# Altium footprint library prosthesis.PcbLib: 35 footprints (part 1 of 3)
Each footprint in its own frame and in the unit in brackets; x right, y up, seen from the top. Pads: shape width x height; smd on the part's side, far side on the other; paste and mask are expansions set on the pad; w line width, h text height; cw(c..) or ccw(c..) is an arc to the next point about the centre after c.
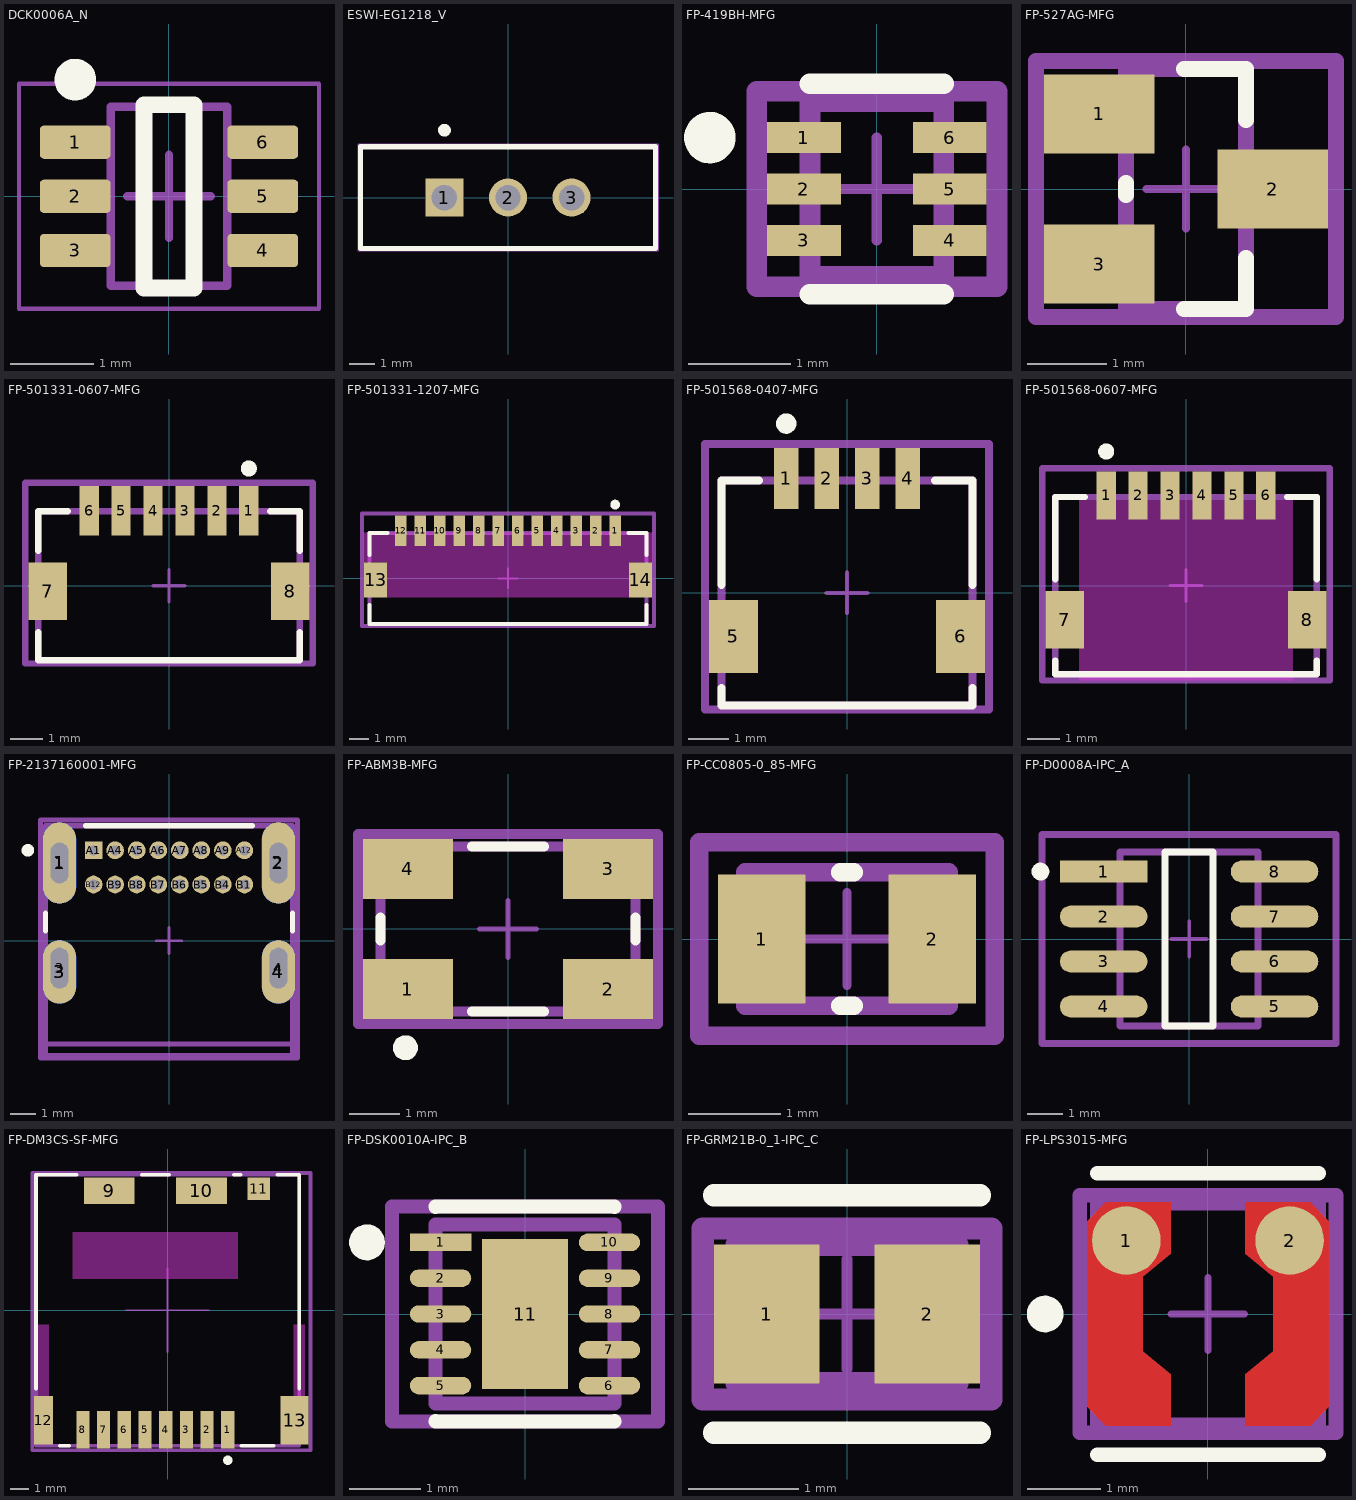
[diagram p0: the footprints below, top view; thin cyan lines are the x and y axes]

## DCK0006A_N [mm]
pads (6):
  rrect25% 0.85x0.4 smd: 1(-1.125,0.65) 2(-1.125,0) 3(-1.125,-0.65) 4(1.125,-0.65) 5(1.125,0) 6(1.125,0.65)
Top Overlay:
  circle w0.25: c-1.125,1.4 r0.125
  lines w0.2: -0.3,-1.1 0.3,-1.1 0.3,1.1 -0.3,1.1 -0.3,-1.1
Mechanical 1:
  text ".Designator" at -0.635,-0.127 h0.3
Top Assembly:
  lines w0.1: -0.7,-1.075 -0.7,1.075 0.7,1.075 0.7,-1.075 -0.7,-1.075
Top Courtyard:
  lines w0.05: -1.8,-1.35 -1.8,1.35 1.8,1.35 1.8,-1.35 -1.8,-1.35
  lines w0.1: -0.5,0 0.5,0 ; 0,-0.5 0,0.5
3D body "DCK0006AakaMAA06.stp": height 0.94, standoff -0.01, extent -1.14,-1 1.14,1

## ESWI-EG1218_V [mm]
pads (3):
  rect 1.5x1.5 hole 1: 1(-2.5,0)
  round 1.5 hole 1: 2(0,0) 3(2.5,0)
Top Overlay:
  circle w0.25: c-2.5,2.65 r0.125
  lines w0.2: -5.8,-2 -5.8,2 5.8,2 5.8,-2 -5.8,-2
Top Assembly:
  lines w0.1: -5.8,-2 -5.8,2 5.8,2 5.8,-2 -5.8,-2
Top Courtyard:
  lines w0.05: -5.9,-2.1 -5.9,2.1 5.9,2.1 5.9,-2.1 -5.9,-2.1
  lines w0.1: -0.5,0 0.5,0 ; 0,-0.5 0,0.5
3D body: height 7.4, standoff 0, extent -5.8,-2 5.8,2

## FP-419BH-MFG [mm]
pads (6):
  rect 0.72x0.3 smd paste+0 mask+0: 1(-0.71,0.5) 2(-0.71,0) 3(-0.71,-0.5) 4(0.71,-0.5) 5(0.71,0) 6(0.71,0.5)
Top Overlay:
  circle w0.25: c-1.625,0.5 r0.125
  lines w0.2: -0.65,-1.025 0.65,-1.025 ; -0.65,1.025 0.65,1.025
Top 3D Body:
  lines w0.2: -0.65,-0.85 -0.65,0.85 0.65,0.85 0.65,-0.85 -0.65,-0.85
Top Component Center:
  lines w0.1: -0.5,0 0.5,0 ; 0,-0.5 0,0.5
Top Assembly:
  lines w0.2: -1.17,-0.95 -1.17,0.95 1.17,0.95 1.17,-0.95 -1.17,-0.95
  text ".Designator" at 0,0.188 h1
Top Courtyard:
  lines w0.2: -1.17,-0.95 -1.17,0.95 1.17,0.95 1.17,-0.95 -1.17,-0.95
3D body "Trans_onsemi_2N7002VA_eec.STEP": height 0.25, standoff 0, extent -1.17,-0.95 1.17,0.95

## FP-527AG-MFG [mm]
pads (3):
  rect 1.4x1 smd paste+0 mask+0: 1(-1.1,0.95) 2(1.1,0) 3(-1.1,-0.95)
Top Overlay:
  lines w0.2: -0.76,-0.075 -0.76,0.075 ; -0.025,-1.52 0.76,-1.52 0.76,-0.875 ; -0.025,1.52 0.76,1.52 0.76,0.875
Top 3D Body:
  lines w0.2: -0.76,-1.52 -0.76,1.52 0.76,1.52 0.76,-1.52 -0.76,-1.52
Top Component Center:
  lines w0.1: -0.5,0 0.5,0 ; 0,-0.5 0,0.5
Top Assembly:
  lines w0.2: -1.9,-1.62 -1.9,1.62 1.9,1.62 1.9,-1.62 -1.9,-1.62
  text ".Designator" at 0,-0.001 h1
Top Courtyard:
  lines w0.2: -1.9,-1.62 -1.9,1.62 1.9,1.62 1.9,-1.62 -1.9,-1.62
3D body "Trans_ON_Semi_FDN337N_eec.STEP": height 0.25, standoff 0, extent -1.9,-1.62 1.9,1.62

## FP-501331-0607-MFG [mm]
pads (8):
  rect 0.6x1.55 smd paste+0 mask+0: 1(2.5,2.35) 2(1.5,2.35) 3(0.5,2.35) 4(-0.5,2.35) 5(-1.5,2.35) 6(-2.5,2.35)
  rect 1.2x1.8 smd paste+0 mask+0: 7(-3.8,-0.175) 8(3.8,-0.175)
Top Overlay:
  circle w0.25: c2.5,3.675 r0.125
  lines w0.2: -4.1,-1.45 -4.1,-2.335 4.1,-2.335 4.1,-1.45 ; -4.1,1.1 -4.1,2.335 -3.175,2.335 ; 3.175,2.335 4.1,2.335 4.1,1.1
Top 3D Body:
  lines w0.2: -4.1,-2.335 -4.1,2.335 4.1,2.335 4.1,-2.335 -4.1,-2.335
Top Component Center:
  lines w0.1: -0.5,0 0.5,0 ; 0,-0.5 0,0.5
Top Assembly:
  lines w0.2: -4.5,-2.435 -4.5,3.225 4.5,3.225 4.5,-2.435 -4.5,-2.435
  text ".Designator" at 0,0.394 h1
Top Courtyard:
  lines w0.2: -4.5,-2.435 -4.5,3.225 4.5,3.225 4.5,-2.435 -4.5,-2.435
3D body "Conn_Molex_501331-0607_eec.STEP": height 0.25, standoff 0, extent -4.5,-2.435 4.5,3.225

## FP-501331-1207-MFG [mm]
pads (14):
  rect 0.6x1.55 smd paste+0 mask+0: 1(5.5,2.45) 2(4.5,2.45) 3(3.5,2.45) 4(2.5,2.45) 5(1.5,2.45) 6(0.5,2.45) 7(-0.5,2.45) 8(-1.5,2.45) 9(-2.5,2.45) 10(-3.5,2.45) 11(-4.5,2.45) 12(-5.5,2.45)
  rect 1.2x1.8 smd paste+0 mask+0: 13(-6.8,-0.075) 14(6.8,-0.075)
Top Overlay:
  circle w0.25: c5.5,3.79 r0.125
  lines w0.2: -7.1,-1.35 -7.1,-2.335 7.1,-2.335 7.1,-1.35 ; -7.1,1.2 -7.1,2.335 -6.175,2.335 ; 6.175,2.335 7.1,2.335 7.1,1.2
Keep-Out Layer:
  region: -7.4,0.825 -7.4,2.355 -5.8,2.355 -5.8,1.675 -5.2,1.675 -5.2,2.355 -4.8,2.355 -4.8,1.675 -4.2,1.675 -4.2,2.355 -3.8,2.355 -3.8,1.675 -3.2,1.675 -3.2,2.355 -2.8,2.355 -2.8,1.675 -2.2,1.675 -2.2,2.355 -1.8,2.355 -1.8,1.675 -1.2,1.675 -1.2,2.355 -0.8,2.355 -0.8,1.675 -0.2,1.675 -0.2,2.355 0.2,2.355 0.2,1.675 0.8,1.675 0.8,2.355 1.2,2.355 1.2,1.675 1.8,1.675 1.8,2.355 2.2,2.355 2.2,1.675 2.8,1.675 2.8,2.355 3.2,2.355 3.2,1.675 3.8,1.675 3.8,2.355 4.2,2.355 4.2,1.675 4.8,1.675 4.8,2.355 5.2,2.355 5.2,1.675 5.8,1.675 5.8,2.355 7.4,2.355 7.4,0.825 6.2,0.825 6.2,-0.975 -6.2,-0.975 -6.2,0.825
Top 3D Body:
  lines w0.2: -7.1,-2.335 -7.1,2.335 7.1,2.335 7.1,-2.335 -7.1,-2.335
Top Component Center:
  lines w0.1: -0.5,0 0.5,0 ; 0,-0.5 0,0.5
Top Assembly:
  lines w0.2: -7.5,-2.435 -7.5,3.325 7.5,3.325 7.5,-2.435 -7.5,-2.435
  text ".Designator" at 0,0.633 h1
Top Courtyard:
  lines w0.2: -7.5,-2.435 -7.5,3.325 7.5,3.325 7.5,-2.435 -7.5,-2.435
3D body "Conn_Molex_501331-1207_eec.STEP": height 0.25, standoff 0, extent -7.5,-2.435 7.5,3.325

## FP-501568-0407-MFG [mm]
pads (6):
  rect 0.6x1.5 smd paste+0 mask+0: 1(-1.5,2.825) 2(-0.5,2.825) 3(0.5,2.825) 4(1.5,2.825)
  rect 1.2x1.8 smd paste+0 mask+0: 5(-2.8,-1.075) 6(2.8,-1.075)
Top Overlay:
  circle w0.25: c-1.5,4.175 r0.125
  lines w0.2: -3.1,-2.35 -3.1,-2.775 3.1,-2.775 3.1,-2.35 ; -3.1,0.2 -3.1,2.775 -2.175,2.775 ; 2.175,2.775 3.1,2.775 3.1,0.2
Top 3D Body:
  lines w0.2: -3.1,-2.775 -3.1,2.775 3.1,2.775 3.1,-2.775 -3.1,-2.775
Top Component Center:
  lines w0.1: -0.5,0 0.5,0 ; 0,-0.5 0,0.5
Top Assembly:
  lines w0.2: -3.5,-2.875 -3.5,3.675 3.5,3.675 3.5,-2.875 -3.5,-2.875
  text ".Designator" at 0,0.399 h1
Top Courtyard:
  lines w0.2: -3.5,-2.875 -3.5,3.675 3.5,3.675 3.5,-2.875 -3.5,-2.875
3D body "Conn_Molex_501568-0407_eec.STEP": height 0.25, standoff 0, extent -3.5,-2.875 3.5,3.675

## FP-501568-0607-MFG [mm]
pads (8):
  rect 0.6x1.5 smd paste-1000 mask+0: 1(-2.5,2.825) 2(-1.5,2.825) 3(-0.5,2.825) 4(0.5,2.825) 5(1.5,2.825) 6(2.5,2.825)
  rect 1.2x1.8 smd paste-1000 mask+0: 7(-3.8,-1.075) 8(3.8,-1.075)
Top Overlay:
  circle w0.25: c-2.5,4.2 r0.125
  lines w0.2: -4.1,-2.35 -4.1,-2.775 4.1,-2.775 4.1,-2.35 ; -4.1,0.2 -4.1,2.775 -3.175,2.775 ; 3.175,2.775 4.1,2.775 4.1,0.2
Top Paste:
  rectangle: 3.35,-1.975 4.4,-0.175
  rectangle: -4.4,-1.975 -3.35,-0.175
  rectangle: 2.2,2.675 2.8,3.575
  rectangle: 1.2,2.675 1.8,3.575
  rectangle: 0.2,2.675 0.8,3.575
  rectangle: -0.8,2.675 -0.2,3.575
  rectangle: -1.8,2.675 -1.2,3.575
  rectangle: -2.8,2.675 -2.2,3.575
Keep-Out Layer:
  rectangle: -3.35,-2.975 3.35,2.675
Top 3D Body:
  lines w0.2: -4.1,-2.775 -4.1,2.775 4.1,2.775 4.1,-2.775 -4.1,-2.775
Top Component Center:
  lines w0.1: -0.5,0 0.5,0 ; 0,-0.5 0,0.5
Top Assembly:
  lines w0.2: -4.5,-2.975 -4.5,3.675 4.5,3.675 4.5,-2.975 -4.5,-2.975
  text ".Designator" at 0,0.538 h1
Top Courtyard:
  lines w0.2: -4.5,-2.975 -4.5,3.675 4.5,3.675 4.5,-2.975 -4.5,-2.975

## FP-2137160001-MFG [mm]
pads (28):
  rrect100% 0.7x1.6 hole 1.6 slot 0.7 at 0 deg paste-2539.97 mask+0: 1(-4.32,3.065) 2(4.32,3.065) 3(-4.32,-1.085) 4(4.32,-1.085)
  rrect100% 1.3x3.2 smd paste-1000 mask+0: 1(-4.32,3.065) 2(4.32,3.065)
  rrect100% 1.3x3.2 smd far side paste-1000 mask+0: 1(-4.32,3.065) 2(4.32,3.065)
  rrect100% 1.3x2.5 smd paste-1000 mask+0: 3(-4.32,-1.235) 4(4.32,-1.235)
  rrect100% 1.3x2.5 smd far side paste-1000 mask+0: 3(-4.32,-1.235) 4(4.32,-1.235)
  rect 0.7x0.7 hole 0.4 paste-2539.97 mask+0: A1(-2.975,3.565)
  round 0.7 hole 0.4 paste-2539.97 mask+0: A4(-2.125,3.565) A5(-1.275,3.565) A6(-0.425,3.565) A7(0.425,3.565) A8(1.275,3.565) A9(2.125,3.565) A12(2.975,3.565) B1(2.975,2.215) B4(2.125,2.215) B5(1.275,2.215) B6(0.425,2.215) B7(-0.425,2.215) B8(-1.275,2.215) B9(-2.125,2.215) B12(-2.975,2.215)
Top Overlay:
  circle w0.25: c-5.57,3.565 r0.125
  lines w0.2: -4.87,0.39 -4.87,1.09 ; -3.295,4.535 3.295,4.535 ; 4.87,0.39 4.87,1.09
Top 3D Body:
  lines w0.2: -5.07,-4.085 5.07,-4.085 ; -4.87,-4.535 -4.87,4.535 4.87,4.535 4.87,-4.535 -4.87,-4.535
Top Component Center:
  lines w0.1: -0.5,0 0.5,0 ; 0,-0.5 0,0.5
Top Assembly:
  lines w0.2: -5.07,-4.635 -5.07,4.765 5.07,4.765 5.07,-4.635 -5.07,-4.635
  text ".Designator" at 0,0.064 h1
Top Courtyard:
  lines w0.2: -5.07,-4.635 -5.07,4.765 5.07,4.765 5.07,-4.635 -5.07,-4.635
3D body "Conn_Molex_2137160001_eec.STEP": height 0.25, standoff 0, extent -5.07,-4.635 5.07,4.765

## FP-ABM3B-MFG [mm]
pads (4):
  rect 1.8x1.2 smd paste+0 mask+0: 1(-2,-1.2) 2(2,-1.2) 3(2,1.2) 4(-2,1.2)
Top Overlay:
  circle w0.25: c-2.05,-2.375 r0.125
  lines w0.2: -2.55,-0.225 -2.55,0.225 ; -0.725,-1.65 0.725,-1.65 ; -0.725,1.65 0.725,1.65 ; 2.55,-0.225 2.55,0.225
Top 3D Body:
  lines w0.2: -2.55,-1.65 2.55,-1.65 2.55,1.65 -2.55,1.65 -2.55,-1.65
Top Component Center:
  lines w0.1: -0.57,0 0.57,0 ; 0,-0.57 0,0.57
Top Assembly:
  lines w0.2: -3,-1.9 3,-1.9 3,1.9 -3,1.9 -3,-1.9
  text ".Designator" at 0,0.188 h1
Top Courtyard:
  lines w0.2: -3,-1.9 3,-1.9 3,1.9 -3,1.9 -3,-1.9
3D body "Crys_Abracon_ABM3B-12_000MHZ-10-B-1-U-T_eec.STEP": height 0.25, standoff 0, extent -3,-1.9 3,1.9

## FP-CC0805-0_85-MFG [mm]
pads (2):
  rect 0.95x1.4 smd paste+0 mask+0: 1(-0.925,0) 2(0.925,0)
Top Overlay:
  lines w0.2: -0.075,-0.725 0.075,-0.725 ; -0.075,0.725 0.075,0.725
Top 3D Body:
  lines w0.2: -1.1,-0.725 -1.1,0.725 1.1,0.725 1.1,-0.725 -1.1,-0.725
Top Component Center:
  lines w0.1: -0.5,0 0.5,0 ; 0,-0.5 0,0.5
Top Assembly:
  lines w0.2: -1.6,-1.05 -1.6,1.05 1.6,1.05 1.6,-1.05 -1.6,-1.05
  text ".Designator" at 0,0.188 h1
Top Courtyard:
  lines w0.2: -1.6,-1.05 -1.6,1.05 1.6,1.05 1.6,-1.05 -1.6,-1.05
3D body "Cap_Yageo_CC0805KKX7R7BB105_eec.STEP": height 0.25, standoff 0, extent -1.6,-1.05 1.6,1.05

## FP-D0008A-IPC_A [mm]
pads (8):
  rect 2.469x0.622 smd paste+0 mask+0: 1(-2.414,1.905)
  rrect100% 2.469x0.622 smd paste+0 mask+0: 2(-2.414,0.635) 3(-2.414,-0.635) 4(-2.414,-1.905) 5(2.414,-1.905) 6(2.414,-0.635) 7(2.414,0.635) 8(2.414,1.905)
Top Overlay:
  circle w0.25: c-4.198,1.905 r0.125
  lines w0.2: -0.679,-2.452 0.679,-2.452 0.679,2.452 -0.679,2.452 -0.679,-2.452
Top 3D Body:
  lines w0.2: -1.947,-2.452 1.947,-2.452 1.947,2.452 -1.947,2.452 -1.947,-2.452
Top Component Center:
  lines w0.1: -0.5,0 0.5,0 ; 0,-0.5 0,0.5
Top Assembly:
  lines w0.2: -4.148,-2.953 4.148,-2.953 4.148,2.953 -4.148,2.953 -4.148,-2.953
  text ".Designator" at 0,0.188 h1
Top Courtyard:
  lines w0.2: -4.148,-2.953 4.148,-2.953 4.148,2.953 -4.148,2.953 -4.148,-2.953
3D body "IC_Texas_Instruments_ISO7220ADR_eec.STEP": height 0.25, standoff 0, extent -4.148,-2.953 4.148,2.953

## FP-DM3CS-SF-MFG [mm]
pads (13):
  rect 0.7x2 smd paste+0 mask+0: 1(3.2,-6.35) 2(2.1,-6.35) 3(1,-6.35) 4(-0.1,-6.35) 5(-1.2,-6.35) 6(-2.3,-6.35) 7(-3.4,-6.35) 8(-4.5,-6.35)
  rect 2.7x1.4 smd paste+0 mask+0: 9(-3.1,6.35) 10(1.8,6.35)
  rect 1.2x1.2 smd paste+0 mask+0: 11(4.85,6.45)
  rect 1x2.6 smd paste+0 mask+0: 12(-6.6,-5.85)
  rect 1.5x2.6 smd paste+0 mask+0: 13(6.75,-5.85)
Top Overlay:
  circle w0.25: c3.2,-7.975 r0.125
  lines w0.2: -7,-4.175 -7,7.2 -4.825,7.2 ; -5.725,-7.2 -5.225,-7.2 ; -1.375,7.2 0.075,7.2 ; 3.525,7.2 3.875,7.2 ; 3.925,-7.2 5.625,-7.2 ; 5.825,7.2 7,7.2 7,-4.175
Keep-Out Layer:
  rectangle: -5.05,1.65 3.75,4.15
  rectangle: 6.7,-4.55 7.3,-0.75
  rectangle: -6.9,-4.55 -6.3,-0.75
Top 3D Body:
  lines w0.2: -7,-7.2 7,-7.2 7,7.2 -7,7.2 -7,-7.2
Top Component Center:
  lines w0.1: -2.213,0 2.213,0 ; 0,-2.213 0,2.213
Top Assembly:
  lines w0.2: -7.2,-7.45 7.6,-7.45 7.6,7.3 -7.2,7.3 -7.2,-7.45
  text ".Designator" at 0.2,0.113 h1
Top Courtyard:
  lines w0.2: -7.2,-7.45 7.6,-7.45 7.6,7.3 -7.2,7.3 -7.2,-7.45
3D body "Conn_HIROSE_DM3CS-SF_eec.STEP": height 0.25, standoff 0, extent -7.2,-7.45 7.6,7.3

## FP-DSK0010A-IPC_B [mm]
pads (11):
  rect 0.856x0.242 smd paste+0 mask+0: 1(-1.178,1)
  rrect100% 0.856x0.242 smd paste+0 mask+0: 2(-1.178,0.5) 3(-1.178,0) 4(-1.178,-0.5) 5(-1.178,-1) 6(1.178,-1) 7(1.178,-0.5) 8(1.178,0) 9(1.178,0.5) 10(1.178,1)
  rect 1.2x2.1 smd paste-1000 mask+0: 11(0,0)
Top Overlay:
  circle w0.25: c-2.206,1 r0.125
  lines w0.2: -1.25,-1.496 -1.25,-1.5 1.25,-1.5 1.25,-1.496 ; -1.25,1.496 -1.25,1.5 1.25,1.5 1.25,1.496
Top Paste:
  rectangle: -0.329,-0.729 0.329,0.729
Top 3D Body:
  lines w0.2: -1.25,-1.25 -1.25,1.25 1.25,1.25 1.25,-1.25 -1.25,-1.25
Top Component Center:
  lines w0.1: -0.5,0 0.5,0 ; 0,-0.5 0,0.5
Top Assembly:
  lines w0.2: -1.856,-1.5 -1.856,1.5 1.856,1.5 1.856,-1.5 -1.856,-1.5
  text ".Designator" at 0,-0.001 h1
Top Courtyard:
  lines w0.2: -1.856,-1.5 -1.856,1.5 1.856,1.5 1.856,-1.5 -1.856,-1.5
3D body "IC_Texas_Instruments_INA223AIDSKT_eec.STEP": height 0.25, standoff 0, extent -1.856,-1.5 1.856,1.5

## FP-GRM21B-0_1-IPC_C [mm]
pads (2):
  rect 0.958x1.262 smd paste+0 mask+0: 1(-0.727,0) 2(0.727,0)
Top Overlay:
  lines w0.2: -1.206,-1.075 1.206,-1.075 ; -1.206,1.075 1.206,1.075
Top 3D Body:
  lines w0.2: -1,-0.625 -1,0.625 1,0.625 1,-0.625 -1,-0.625
Top Component Center:
  lines w0.1: -0.5,0 0.5,0 ; 0,-0.5 0,0.5
Top Assembly:
  lines w0.2: -1.306,-0.775 -1.306,0.775 1.306,0.775 1.306,-0.775 -1.306,-0.775
  text ".Designator" at 0,0.188 h1
Top Courtyard:
  lines w0.2: -1.306,-0.775 -1.306,0.775 1.306,0.775 1.306,-0.775 -1.306,-0.775
3D body "Cap_Murata_GRM21BR61C106KE15K_eec.STEP": height 0.25, standoff 0, extent -1.306,-0.775 1.306,0.775

## FP-LPS3015-MFG [mm]
pads (2):
  round 0.937 smd paste+0 mask+0: 1(-1.116,1.004) 2(1.116,1.004)
Top Layer:
  region: 1.65,0 1.65,1.27 1.395,1.525 0.51,1.525 0.51,0.825 0.89,0.51 0.89,-0.51 0.51,-0.825 0.51,-1.525 1.395,-1.525 1.65,-1.27
  region: -1.65,0 -1.65,1.27 -1.395,1.525 -0.51,1.525 -0.51,0.825 -0.89,0.51 -0.89,-0.51 -0.51,-0.825 -0.51,-1.525 -1.395,-1.525 -1.65,-1.27
Top Overlay:
  circle w0.25: c-2.225,0 r0.125
  lines w0.2: -1.513,-1.925 1.513,-1.925 ; -1.513,1.925 1.513,1.925
Top 3D Body:
  lines w0.2: -1.513,-1.513 -1.513,1.513 1.513,1.513 1.513,-1.513 -1.513,-1.513
Top Component Center:
  lines w0.1: -0.5,0 0.5,0 ; 0,-0.5 0,0.5
Top Assembly:
  lines w0.2: -1.75,-1.625 -1.75,1.625 1.75,1.625 1.75,-1.625 -1.75,-1.625
  text ".Designator" at 0,0.188 h1
Top Courtyard:
  lines w0.2: -1.75,-1.625 -1.75,1.625 1.75,1.625 1.75,-1.625 -1.75,-1.625
3D body "Ind_Coilcraft_LPS3015-222MRB_eec.STEP": height 0.25, standoff 0, extent -1.75,-1.625 1.75,1.625